# EAGLE library part 3020-10-0200-00 (library mbed-HDK-Connector)
10 Positions Header Connector 0.100" (2.54mm) Through Hole, Right Angle Gold
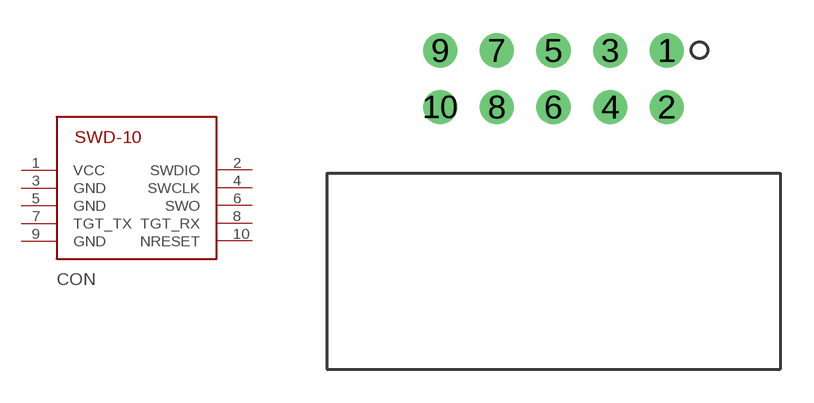
[diagram p13: symbol with the pads of 3020-10-0200-00; footprint 3020-10-0200-00]

Designator prefix CON

## 3020-10-0200-00 (MF: CNC Tech; MFN: 3020-10-0200-00; OC-DIGIKEY: 1175-1615-ND)  [3020-10-0200-00]
1  VCC
2  SWDIO
3  GND
4  SWCLK
5  GND
6  SWO
7  TGT_TX
8  TGT_RX
9  GND
10  NRESET

## Footprint 3020-10-0200-00 (pad centres in mm)
drill 1.02: 1 10.16,0; 2 10.16,-2.54; 3 7.62,0; 4 7.62,-2.54; 5 5.08,0; 6 5.08,-2.54; 7 2.54,0; 8 2.54,-2.54; 9 0,0; 10 0,-2.54